# EAGLE library part 653106131822 (library Wire-to-Board (rev18a))
WR-WTB 1.25mm SMT Male Horizontal Shrouded Header, 6 Pins=>Code : Con_WTB_1.25_PCB_SMT_653106131822 <http://katalog.we-online.de/media/thumbs2/eican/thb_Con_WTB_1.25_PCB_SMT_6531xx131822_pf2.jpg> Details see: http://katalog.we-online.de/en/em/WTB_1_25_SMT_MALE_HORIZONTAL_SHROUDED_HEADER_6531XX131822 Created 2014-06-06, Karrer Zheng 2014 (C) Würth Elektronik
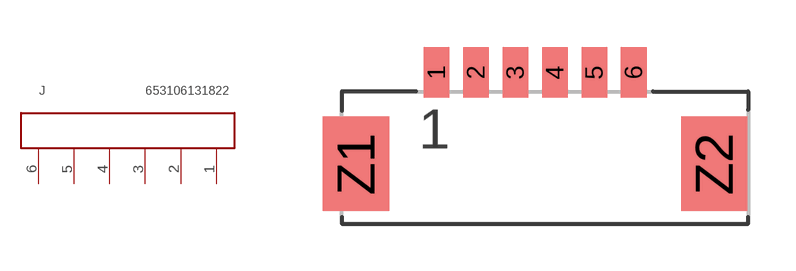
[diagram p63: symbol with the pads of 653106131822; footprint 653106131822]

Designator prefix J

## 653106131822  [653106131822]
1  1  pas
2  2  pas
3  3  pas
4  4  pas
5  5  pas
6  6  pas

## Footprint 653106131822 (pad centres in mm)
WR-WTB 1.25mm SMT Male Horizontal Shrouded Header, 6 Pins
smd 0.81 x 1.6: 1 -3.125,0; 2 -1.875,0; 3 -0.625,0; 4 0.625,0; 5 1.875,0; 6 3.125,0
smd 2.1 x 3: Z1 -5.675,-2.9; Z2 5.675,-2.9